# EAGLE library part STM_LQFP48 (library stm32f4tuner)
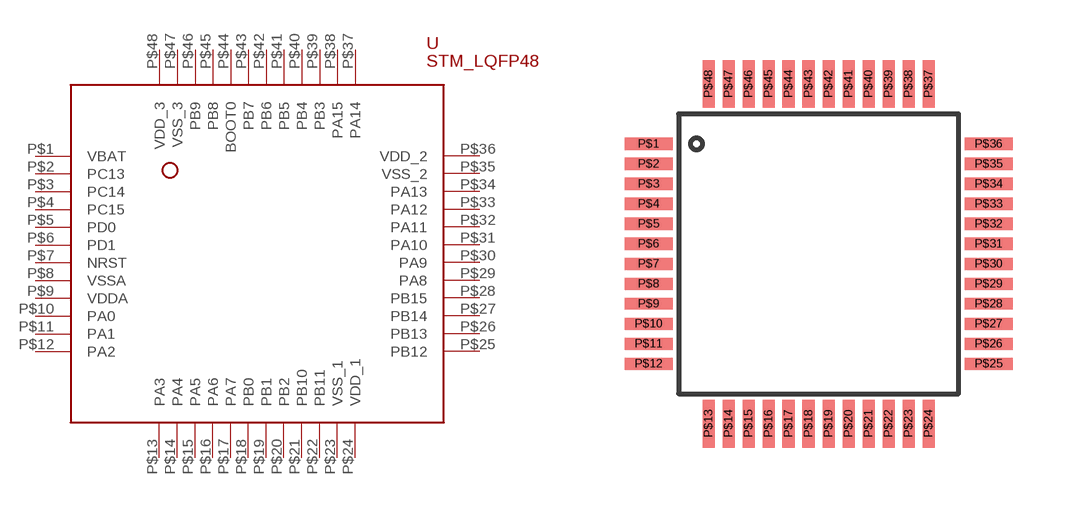
[diagram p1: symbol with the pads of STM_LQFP48; footprint STM_LQFP48]

Designator prefix -

## STM_LQFP48  [STM_LQFP48]
P$1  VBAT  pwr
P$2  PC13
P$3  PC14  in
P$4  PC15  out
P$5  PD0  in
P$6  PD1  out
P$7  NRST  in
P$8  VSSA  pwr
P$9  VDDA  pwr
P$10  PA0
P$11  PA1
P$12  PA2
P$13  PA3
P$14  PA4
P$15  PA5
P$16  PA6
P$17  PA7
P$18  PB0
P$19  PB1
P$20  PB2
P$21  PB10
P$22  PB11
P$23  VSS_1  pwr
P$24  VDD_1  pwr
P$25  PB12
P$26  PB13
P$27  PB14
P$28  PB15
P$29  PA8
P$30  PA9
P$31  PA10
P$32  PA11
P$33  PA12
P$34  PA13
P$35  VSS_2  pwr
P$36  VDD_2  pwr
P$37  PA14
P$38  PA15
P$39  PB3
P$40  PB4
P$41  PB5
P$42  PB6
P$43  PB7
P$44  BOOT0  in
P$45  PB8
P$46  PB9
P$47  VSS_3  pwr
P$48  VDD_3  pwr

## Footprint STM_LQFP48 (pad centres in mm)
STM LQFP48
smd 1.2 x 0.3: P$1 0.6,7.6; P$2 0.6,7.1; P$3 0.6,6.6; P$4 0.6,6.1; P$5 0.6,5.6; P$6 0.6,5.1; P$7 0.6,4.6; P$8 0.6,4.1; P$9 0.6,3.6; P$10 0.6,3.1; P$11 0.6,2.6; P$12 0.6,2.1; P$25 9.1,2.1; P$26 9.1,2.6; P$27 9.1,3.1; P$28 9.1,3.6; P$29 9.1,4.1; P$30 9.1,4.6; P$31 9.1,5.1; P$32 9.1,5.6; P$33 9.1,6.1; P$34 9.1,6.6; P$35 9.1,7.1; P$36 9.1,7.6
smd 0.3 x 1.2: P$13 2.1,0.6; P$14 2.6,0.6; P$15 3.1,0.6; P$16 3.6,0.6; P$17 4.1,0.6; P$18 4.6,0.6; P$19 5.1,0.6; P$20 5.6,0.6; P$21 6.1,0.6; P$22 6.6,0.6; P$23 7.1,0.6; P$24 7.6,0.6; P$37 7.6,9.1; P$38 7.1,9.1; P$39 6.6,9.1; P$40 6.1,9.1; P$41 5.6,9.1; P$42 5.1,9.1; P$43 4.6,9.1; P$44 4.1,9.1; P$45 3.6,9.1; P$46 3.1,9.1; P$47 2.6,9.1; P$48 2.1,9.1